# Altium footprint library PN8370_18W封装.PcbLib: 16 footprints
Each footprint in its own frame and in the unit in brackets; x right, y up, seen from the top. Pads: shape width x height; smd on the part's side, far side on the other; paste and mask are expansions set on the pad; w line width, h text height; cw(c..) or ccw(c..) is an arc to the next point about the centre after c.
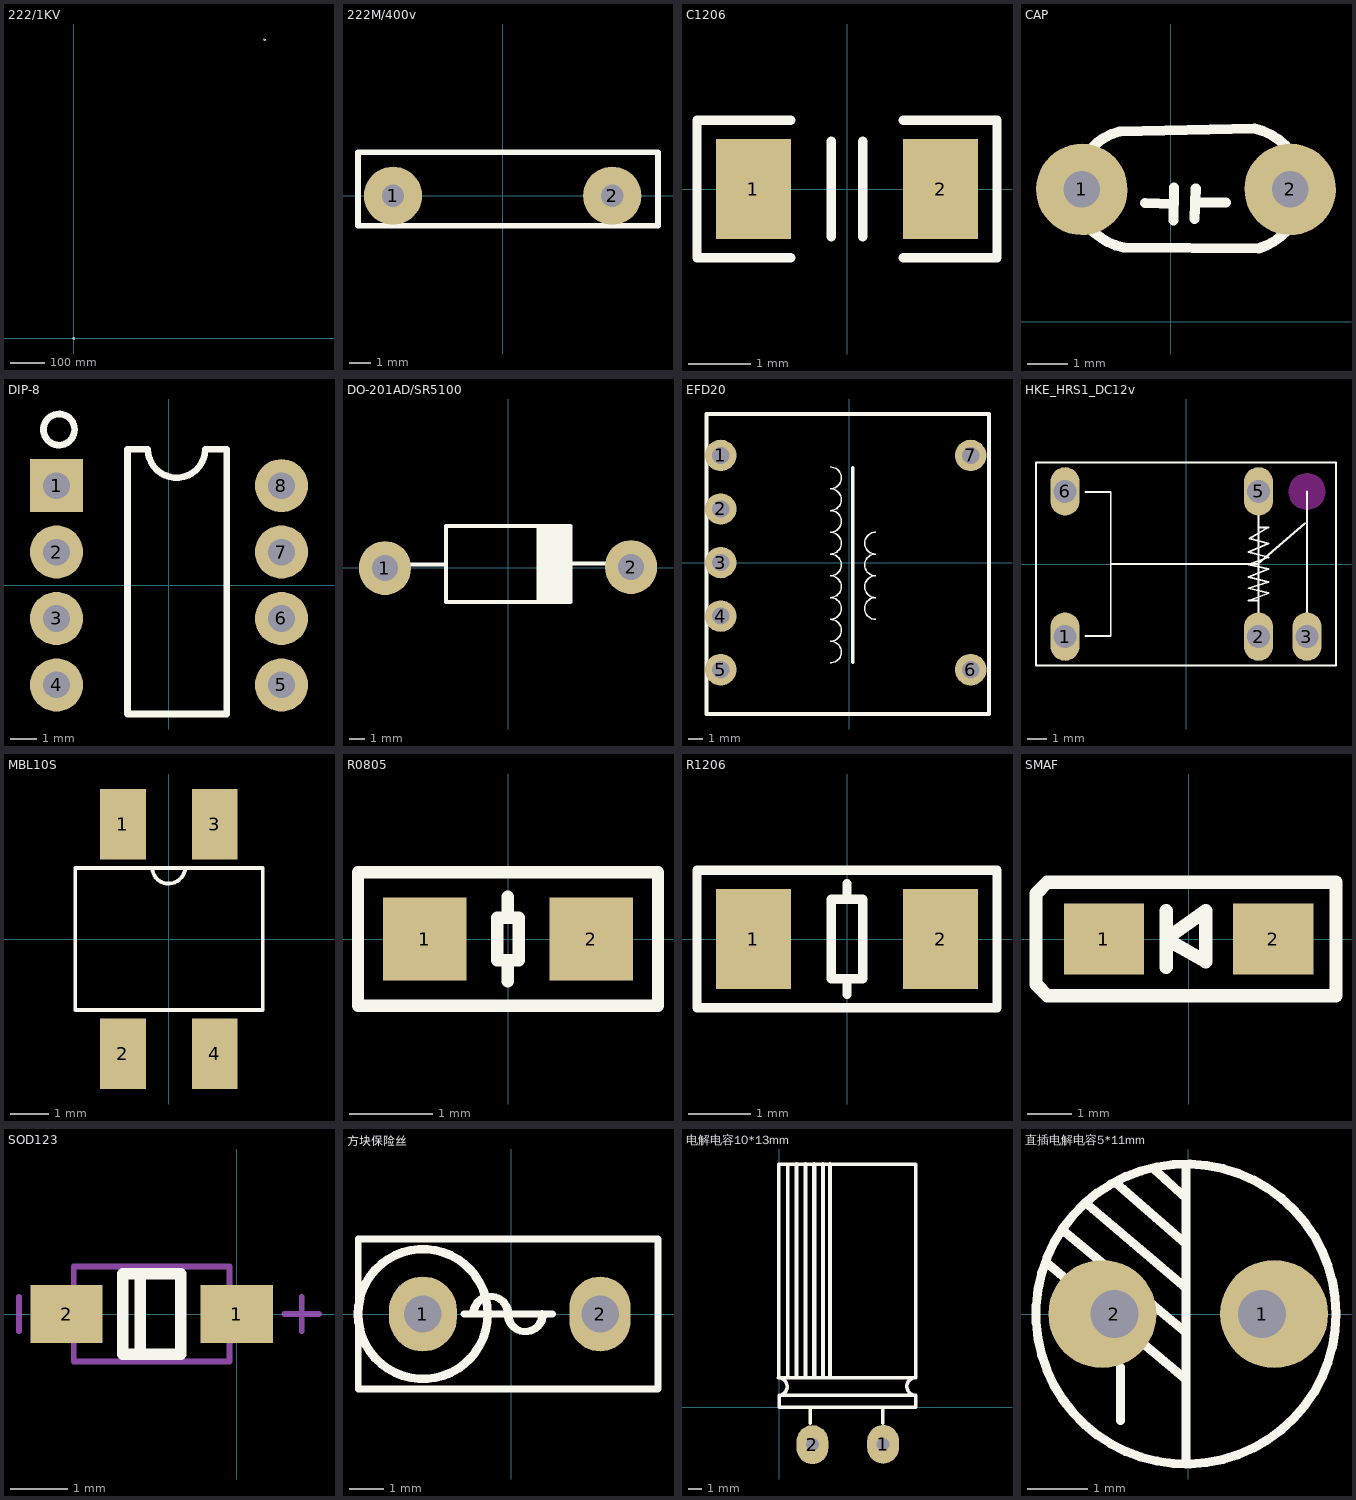
[diagram p0: the footprints below, top view; thin cyan lines are the x and y axes]

## 222/1KV [mil]
pads (4):
  round 90 hole 36: 1(-102.5,0) 1(21840.16,34356.65) 2(102.5,0) 2(22011.41,34257.9)
Top Overlay:
  lines w10: -40.43,-13.45 -11.99,-14.52 ; -12.27,-30.72 -11.7,1.76 ; 8.37,-29.28 9.61,0.7 ; 9.06,-12.68 39.28,-12.86 ; 21879.54,34320.4 21903.89,34305.68 ; 21895.79,34291.65 21912.04,34319.77 ; 21929.54,34272.9 21945.16,34298.52 ; 21938.19,34287.09 21964.54,34272.27 ; -65.22,57.03 ccw(c-50.25,0.4) -61.23,-57.14 71.24,-58.16 ccw(c54.11,0.36) 67.42,59.87 -65.22,57.03 ; 21850.16,34297.27 cw(c21887.66,34342.27) 21902.02,34399.06 22019.4,34337.24 cw(c21978.91,34291.65) 21965.53,34232.16 21850.16,34297.27

## 222M/400v [mil]
pads (2):
  round 105 hole 40: 1(-197.5,0) 2(197.5,0)
Top Overlay:
  lines w10: -260.62,-54.38 -260.62,78.75 280,78.75 280,-54.38 -260.62,-54.38

## C1206 [mm]
pads (2):
  rect 1.2x1.6 smd: 1(-1.5,0) 2(1.5,0)
Top Overlay:
  lines w0.15: -0.9,-1.1 -2.4,-1.1 -2.4,1.1 -0.9,1.1 ; -0.254,-0.762 -0.254,0.762 ; 0.254,-0.762 0.254,0.762 ; 0.9,-1.1 2.4,-1.1 2.4,1.1 0.9,1.1

## CAP [mil]
pads (2):
  round 90 hole 36: 1(-87.5,130) 2(117.5,130)
Top Overlay:
  lines w10: -25.43,116.55 3.01,115.48 ; 2.73,99.28 3.3,131.76 ; 23.37,100.72 24.61,130.7 ; 24.06,117.32 54.28,117.14 ; -50.22,187.03 ccw(c-35.25,130.4) -46.23,72.86 86.24,71.84 ccw(c69.11,130.36) 82.42,189.87 -50.22,187.03

## DIP-8 [mil]
pads (8):
  rect 80x80 hole 40: 1(-169.29,150)
  round 80 hole 40: 2(-169.29,50) 3(-169.29,-50) 4(-169.29,-150) 5(169.29,-150) 6(169.29,-50) 7(169.29,50) 8(169.29,150)
Top Overlay:
  circle w10: c-165.54,234.38 r23.43
  lines w10: -62.42,-193.75 86.96,-193.75 86.96,205 54.46,205 cw(c11.33,205) -31.79,205 -62.42,205 -62.42,-193.75

## DO-201AD/SR5100 [mil]
pads (2):
  oval 130x135 hole 65: 1(-308.75,-1.25) 2(308.75,1.25)
Top Overlay:
  rectangle: 71.88,-86.25 156.88,104.38
  lines w10: -260,7.5 -155.62,7.5 ; 156.88,10.62 258.12,10.62 ; -155.62,-86.25 -155.62,104.38 156.88,104.38 156.88,-86.25 -155.62,-86.25

## EFD20 [mm]
pads (7):
  round 2.2 hole 1.2: 1(-9,7.5) 2(-9,3.75) 3(-9,0) 4(-9,-3.75) 5(-9,-7.5) 6(8.5,-7.5) 7(8.5,7.5)
Top Overlay:
  lines w0.1: -1.346,-7.024 ccw(c-1.333,-6.25) -0.559,-6.262 ccw(c-1.333,-6.275) -1.346,-5.5 ccw(c-1.333,-4.726) -0.559,-4.738 ccw(c-1.333,-4.751) -1.346,-3.976 ccw(c-1.333,-3.202) -0.559,-3.214 ccw(c-1.333,-3.227) -1.346,-2.452 ccw(c-1.333,-1.678) -0.559,-1.69 ccw(c-1.333,-1.703) -1.346,-0.928 ccw(c-1.333,-0.154) -0.559,-0.166 ccw(c-1.333,-0.179) -1.346,0.596 ccw(c-1.333,1.37) -0.559,1.358 ccw(c-1.333,1.345) -1.346,2.12 ccw(c-1.333,2.894) -0.559,2.882 ccw(c-1.333,2.869) -1.346,3.644 ccw(c-1.333,4.418) -0.559,4.406 ccw(c-1.333,4.393) -1.346,5.168 ccw(c-1.333,5.942) -0.559,5.93 ccw(c-1.333,5.917) -1.346,6.692 ; 1.854,-3.976 cw(c1.841,-3.202) 1.067,-3.214 cw(c1.841,-3.227) 1.854,-2.452 cw(c1.841,-1.678) 1.067,-1.69 cw(c1.841,-1.703) 1.854,-0.928 cw(c1.841,-0.154) 1.067,-0.166 cw(c1.841,-0.179) 1.854,0.596 cw(c1.841,1.37) 1.067,1.358 cw(c1.841,1.345) 1.854,2.12
  lines w0.254: 0.254,-6.974 0.254,6.641 ; -10,-10.6 9.779,-10.6 9.779,10.4 -10,10.4 -10,-10.6

## HKE_HRS1_DC12v [mm]
pads (5):
  oval 1.5x2.5 hole 1.2: 1(-6.25,-3.75) 2(3.75,-3.75) 3(6.25,-3.75) 5(3.75,3.75) 6(-6.25,3.75)
Top Overlay:
  lines w0.1: -5.183,-3.725 -3.888,-3.725 -3.888,3.725 -5.183,3.725 ; -3.888,0 3.716,0 6.145,2.092 ; 3.75,-3.75 3.75,3.75 ; 3.75,-1.896 3.234,-1.896 4.266,-1.508 3.234,-1.254 4.266,-0.924 3.234,-0.67 4.266,-0.263 3.234,-0.035 4.266,0.346 3.234,0.626 4.266,1.058 3.275,1.312 4.266,1.896 3.75,1.896 ; 6.25,-3.75 6.25,3.747 ; -7.75,-5.25 -7.75,5.25 7.75,5.25 7.75,-5.25 -7.75,-5.25
Keep-Out Layer:
  board cut-out: 5.314,3.747 5.314,3.655 5.35,3.474 5.421,3.304 5.523,3.15 5.654,3.02 5.807,2.918 5.977,2.847 6.158,2.811 6.25,2.811 6.342,2.811 6.523,2.847 6.693,2.918 6.846,3.02 6.977,3.15 7.079,3.304 7.15,3.474 7.186,3.655 7.186,3.747 7.186,3.839 7.15,4.02 7.079,4.19 6.977,4.343 6.846,4.474 6.693,4.576 6.523,4.646 6.342,4.682 6.25,4.682 6.158,4.682 5.977,4.646 5.807,4.576 5.654,4.474 5.523,4.343 5.421,4.19 5.35,4.02 5.314,3.839

## MBL10S [mm]
pads (4):
  rect 1.2x1.84 smd: 1(-1.2,3) 2(-1.2,-3) 3(1.2,3) 4(1.2,-3)
Top Overlay:
  lines w0.1: -0.432,1.854 ccw(c-0.013,1.867) 0,1.448 ; -0.051,1.448 ccw(c-0.013,1.892) 0.432,1.854 ; -2.445,-1.854 -2.445,1.854 2.455,1.854 2.455,-1.854 -2.445,-1.854

## R0805 [mm]
pads (2):
  rect 1x1 smd: 1(-1,0) 2(1,0)
Top Overlay:
  lines w0.15: 0,-0.508 0,-0.316 ; 0,0.316 0,0.508 ; -1.8,-0.8 -1.8,0.8 1.8,0.8 1.8,-0.8 -1.8,-0.8 ; -0.127,-0.254 -0.127,0.254 0.127,0.254 0.127,-0.254 -0.127,-0.254

## R1206 [mm]
pads (2):
  rect 1.2x1.6 smd: 1(-1.5,0) 2(1.5,0)
Top Overlay:
  lines w0.15: -1.524,1.1 2.4,1.1 2.4,-1.1 -0.9,-1.1 -2.4,-1.1 -2.4,1.1 -0.9,1.1 ; 0,-0.889 0,-0.635 ; 0,0.635 0,0.889 ; -0.254,-0.635 0.254,-0.635 0.254,0.635 -0.254,0.635 -0.254,-0.635

## SMAF [mm]
pads (2):
  rect 1.8x1.6 smd: 1(-1.9,0) 2(1.9,0)
Top Overlay:
  lines w0.3: -0.503,-0.635 -0.503,0.635 ; -3.424,-1.016 -3.424,1.016 -3.17,1.27 -2.789,1.27 3.307,1.27 3.307,-1.27 -3.17,-1.27 -3.424,-1.016 ; -0.503,0 0.386,0.635 0.386,-0.254 0.386,-0.508 -0.503,0

## SOD123 [mm]
pads (2):
  rect 1.25x1 smd: 1(0,0) 2(-2.95,0)
Top Overlay:
  lines w0.2: -1.675,-0.7 -1.675,0.7 ; -1.975,-0.7 -1.975,0.7 -0.975,0.7 -0.975,-0.7 -1.975,-0.7
Mechanical 13:
  lines w0.1: -2.825,-0.825 -0.125,-0.825 -0.125,0.825 -2.825,0.825 -2.825,-0.825
Mechanical 15:
  lines w0.1: -3.775,-0.3 -3.775,0.3 ; 0.825,0 1.425,0 ; 1.125,-0.3 1.125,0.3
3D body "SOD123F.STEP": height 1.2, standoff -0.01, extent -3.375,-0.849 0.375,0.85

## 方块保险丝 [mm]
pads (2):
  oval 2x2.2 hole 1.1: 1(-2.6,0)
  oval 1.8x2.2 hole 1.1: 2(2.6,0)
Top Overlay:
  circle w0.254: c-2.6,0 r1.905
  lines w0.2: -1.2,0 1,0 ; -1.14,0.012 cw(c-0.632,0.012) -0.124,0.012 ccw(c0.384,-0.004) 0.892,0.012 ; -1.092,0.004 cw(c-0.584,0.004) -0.076,0.004 ccw(c0.432,-0.012) 0.94,0.004 ; -4.5,-2.2 -4.5,2.2 4.3,2.2 4.3,-2.2 -4.5,-2.2
  lines w0.203: -1.4,0 1.2,0

## 电解电容10*13mm [mil]
pads (2):
  oval 90x110 hole 36: 1(293.75,-105.62) 2(93.75,-106.25)
Top Overlay:
  lines w10: -3.12,83.32 cw(c-3.12,58.12) 0,33.12 ; 23.75,83.12 23.75,687.5 ; 87.5,-45.62 87.5,0 ; 293.13,-45.62 293.13,0 ; 383.13,83.32 ccw(c386.25,58.32) 386.25,33.12 ; 0,33.12 0,0 386.25,0 386.25,33.12 ; 0,33.12 386.25,33.12 ; -1.87,83.12 386.25,83.12 386.25,687.5 -1.87,687.5 -1.87,83.12
  lines w11.81: 48.75,84.03 48.75,688.41 ; 73.75,84.03 73.75,688.41 ; 98.75,84.03 98.75,687.47 ; 123.75,84.03 123.75,688.41 ; 143.75,84.03 143.75,688.41

## 直插电解电容5*11mm [mm]
pads (2):
  round 1.8 hole 0.8 copper offset 0.2,0: 1(1.232,0)
  round 1.8 hole 0.8 copper offset -0.2,0: 2(-1.232,0)
Top Overlay:
  circle w0.15: c-0.038,0 r2.5
  lines w0.15: -2.358,0.854 -0.038,-1.092 ; -2.095,1.397 -0.038,-0.305 ; -1.714,1.854 -0.038,0.432 ; -1.206,2.184 -0.038,1.168 ; -1.13,-1.778 -1.13,-0.889 ; -0.569,2.415 -0.038,1.93 ; -0.038,-2.5 -0.038,2.464